# Altium schematic symbol library CCPD-033.SchLib: 1 symbol
Pins are listed as number, name and electrical type; pins without a type are passive.

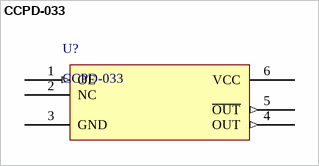
[diagram p0: symbol CCPD-033]

## CCPD-033
designator U?
pins: 1 OE (in), 2 NC, 3 GND (power), 4 OUT (out), 5 ~{OUT} (out), 6 VCC (power)